# Altium integrated library Chassis.IntLib: 17 symbols
Pins are listed as number, name and electrical type; pins without a type are passive.

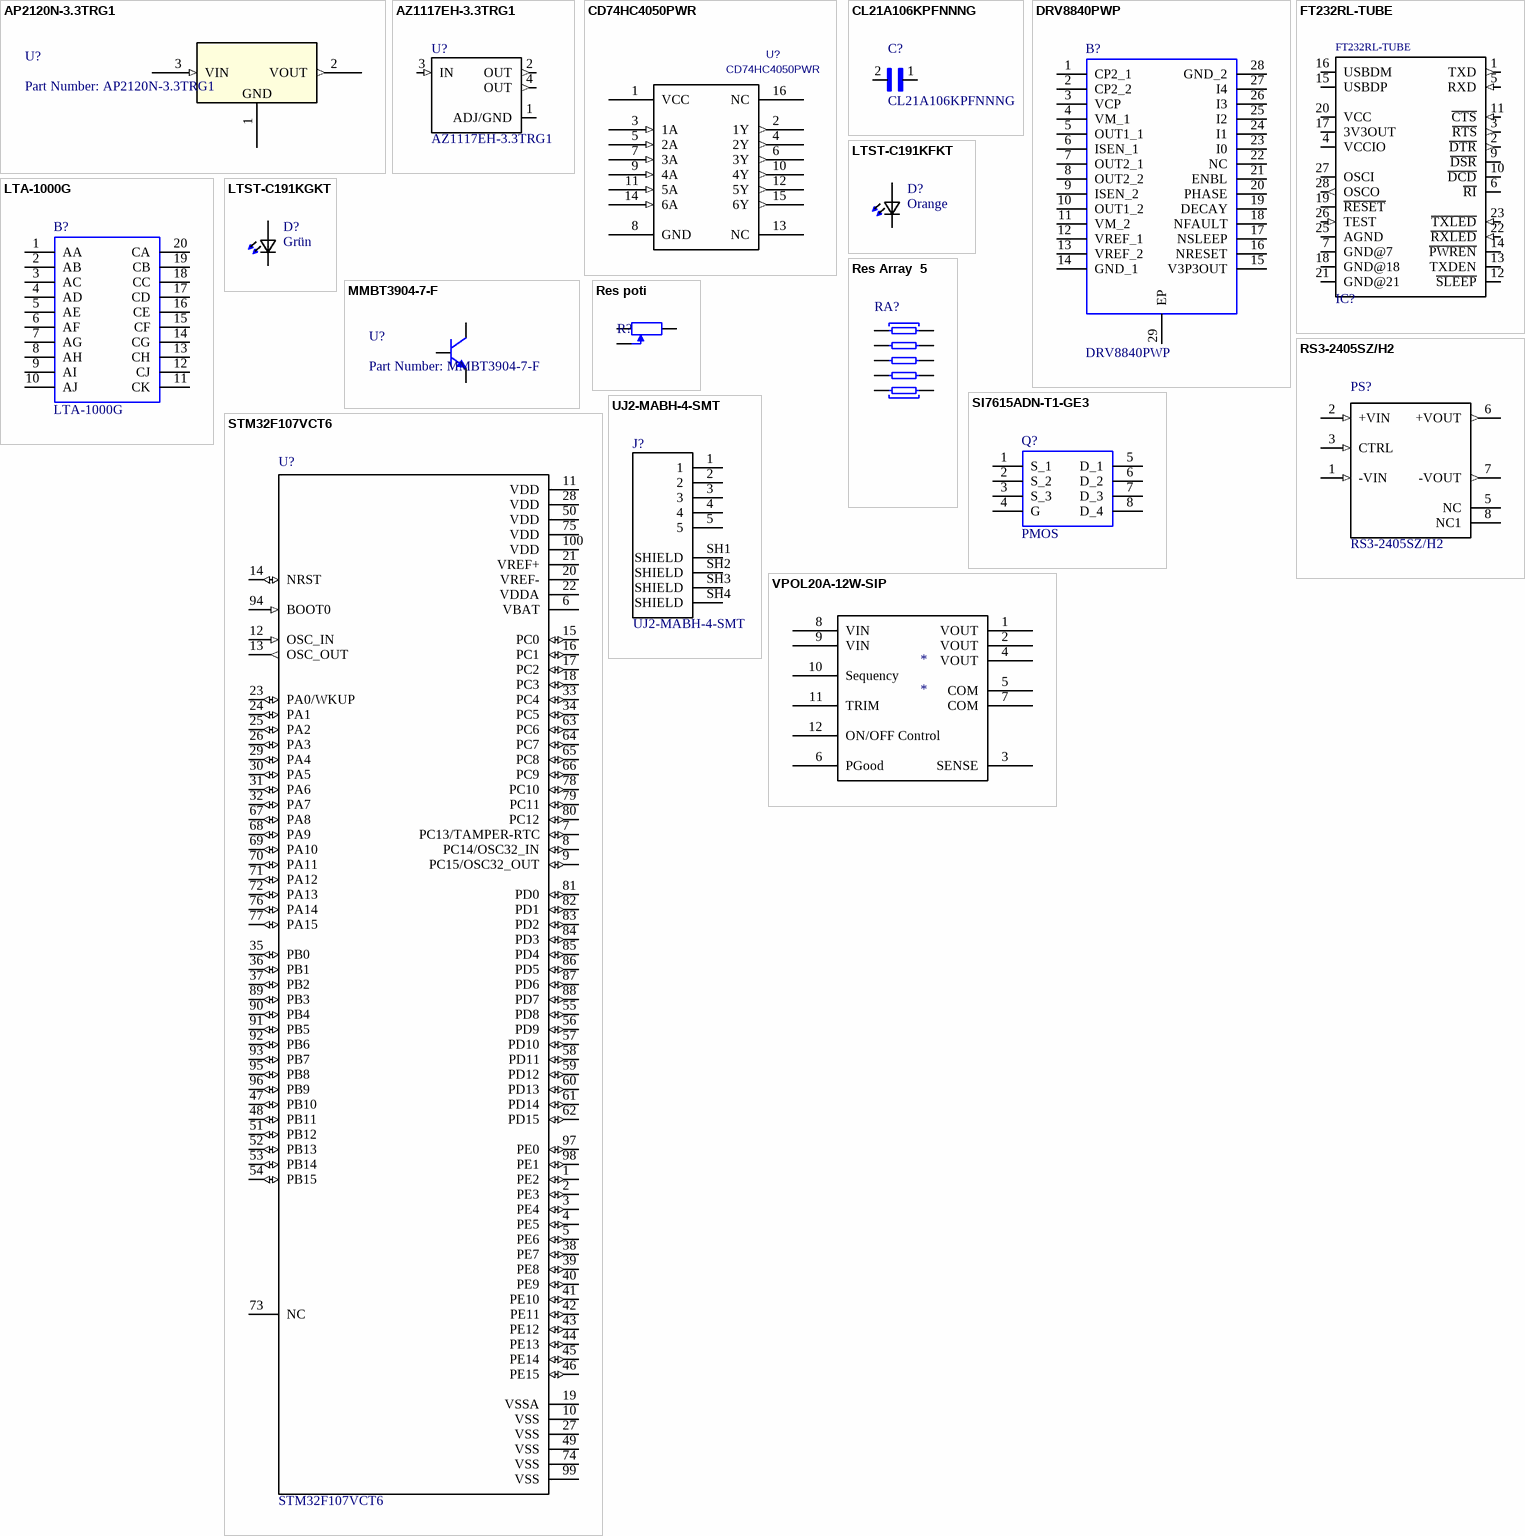
[diagram p0: symbols AP2120N-3.3TRG1 to VPOL20A-12W-SIP]

## AP2120N-3.3TRG1
designator U?, comment Part Number: AP2120N-3.3TRG1
3.3V Voltage Regulator; Vendor: Diodes Inc; Built_By: EMA_UL_Team; Manufacturer_Part_Number: AP2120N-3.3TRG1; Copyright: Copyright (C) 2018 Accelerated Designs. All rights reserved; RefDes: RefDes; Type: DEV; Value: Value
footprint SOT-23-M
pins: 1 GND (power), 2 VOUT (out), 3 VIN (in)

## AZ1117EH-3.3TRG1
designator U?
Ldo.Vreg Pos 3, 3v 1a Sot223; MF: Diodes Inc.; Package: SOT-223 Diodes Inc.; Digi-Key_Purchase_URL: https://www.digikey.ch/product-detail/en/diodes-incorporated/AZ1117EH-3.3TRG1/AZ1117EH-3.3TRG1DICT-ND/5001336?utm_source=snapeda&utm_medium=aggregator&utm_campaign=symbol; MP: AZ1117EH-3.3TRG1; SnapEDA_Link: https://www.snapeda.com/parts/AZ1117EH-3.3TRG1/Diodes%20Inc./view-part/?ref=snap; Digi-Key_Part_Number: AZ1117EH-3.3TRG1DICT-ND; Value: *
footprint *SOT230P700X180-4N
pins: 1 ADJ/GND (power), 2 OUT (out), 3 IN (in), 4 OUT (out)

## CD74HC4050PWR
designator U?
Manufacturer: Texas Instruments; C: Copyright (C) 2015 Accelerated Designs. All rights reserved; Built_By: EMA_UL_Team; Value: CD74HC4050PWR; Vendor: Vendor; Manufacturer_Part_Number: CD74HC4050PWR
footprint PW16
pins: 1 VCC (power), 2 1Y (out), 3 1A (in), 4 2Y (out), 5 2A (in), 6 3Y (out), 7 3A (in), 8 GND (power), 9 4A (in), 10 4Y (out), 11 5A (in), 12 5Y (out), 13 NC, 14 6A (in), 15 6Y (out), 16 NC

## CL21A106KPFNNNG
designator C?
MF: Samsung Electro-Mechanics; Digi-Key_Part_Number: 1276-6456-1-ND; Digi-Key_Purchase_URL: https://www.digikey.com/product-detail/en/samsung-electro-mechanics/CL21A106KPFNNNG/1276-6456-1-ND/5958084?utm_source=snapeda&utm_medium=aggregator&utm_campaign=symbol; SnapEDA_Link: https://www.snapeda.com/parts/CL21A106KPFNNNG/Samsung%20Electro-Mechanics/view-part/?ref=snap; MP: CL21A106KPFNNNG; Package: 0805 Samsung; Value: *
footprint *CAPC2012X135N
pins: 1, 2

## DRV8840PWP
designator B?
Texas Instruments DRV8840PWP, Full Bridge Motor Driver, DC Motor Driver, 28-Pin HTSSOP; Geometry.Height: 1.2mm; Mouser Part Number: 595-DRV8840PWP; Mouser Price/Stock: https://www.mouser.com/Search/Refine.aspx?Keyword=595-DRV8840PWP; Manufacturer_Name: Texas Instruments; Manufacturer_Part_Number: DRV8840PWP; Datasheet Link: http://www.ti.com/lit/ds/symlink/drv8840.pdf
footprint SOP65P640X120-29N
pins: 1 CP2_1, 2 CP2_2, 3 VCP, 4 VM_1, 5 OUT1_1, 6 ISEN_1, 7 OUT2_1, 8 OUT2_2, 9 ISEN_2, 10 OUT1_2, 11 VM_2, 12 VREF_1, 13 VREF_2, 14 GND_1, 15 V3P3OUT, 16 NRESET, 17 NSLEEP, 18 NFAULT, 19 DECAY, 20 PHASE, 21 ENBL, 22 NC, 23 I0, 24 I1, 25 I2, 26 I3, 27 I4, 28 GND_2, 29 EP

## FT232RL-TUBE
designator IC?  (value not drawn)
USB-to-UART 1-CH 256byte FIFO 5V 28-Pin SSOP Tube; MF: FTDI,; MP: FT232RL-TUBE; Digi-Key_Part_Number: 768-1306-ND; Package: SSOP-28 FTDI; Digi-Key_Purchase_URL: https://www.digikey.com/product-detail/en/ftdi-future-technology-devices-international-ltd/FT232RL-TUBE/768-1306-ND/4006920?utm_source=snapeda&utm_medium=aggregator&utm_campaign=symbol; SnapEDA_Link: https://www.snapeda.com/parts/FT232RL-TUBE/FTDI%2C%20Future%20Technology%20Devices%20International%20Ltd/view-part/?ref=snap; Value: *
footprint *SSOP28-LD
pins: 1 TXD (out), 2 ~{DTR} (out), 3 ~{RTS} (out), 4 VCCIO (power), 5 RXD (in), 6 ~{RI}, 7 GND@7 (power), 9 ~{DSR}, 10 ~{DCD}, 11 ~{CTS} (in), 12 ~{SLEEP}, 13 TXDEN, 14 ~{PWREN}, 15 USBDP (io), 16 USBDM (io), 17 3V3OUT (power), 18 GND@18 (power), 19 ~{RESET}, 20 VCC (power), 21 GND@21 (power), 22 ~{RXLED} (in), 23 ~{TXLED} (in), 25 AGND (power), 26 TEST (in), 27 OSCI, 28 OSCO (out)

## LTA-1000G
designator B?
LED Uni-Color Green 565nm 20-Pin PDIP; Manufacturer_Name: Lite-On; Geometry.Height: 8.25mm; Manufacturer_Part_Number: LTA-1000G; Mouser Part Number: 859-LTA-1000G; Mouser Price/Stock: https://www.mouser.com/Search/Refine.aspx?Keyword=859-LTA-1000G; RS Part Number: *; RS Price/Stock: *; Datasheet Link: https://optoelectronics.liteon.com/upload/download/DS-30-92-0809/A1000G.pdf
footprint DIPS762W50P254L2527H825Q20N
pins: 1 AA, 2 AB, 3 AC, 4 AD, 5 AE, 6 AF, 7 AG, 8 AH, 9 AI, 10 AJ, 11 CK, 12 CJ, 13 CH, 14 CG, 15 CF, 16 CE, 17 CD, 18 CC, 19 CB, 20 CA

## LTST-C191KFKT
designator D?, comment Orange
/ LED; SMD; 0603; orange; 45-90mcd; 1.6x0.8x0.55mm; 130Â°; 2Ã·2.4V; 20mA /; MP: LTST-C191KFKT; MF: Lite-On Inc.; Digi-Key_Purchase_URL: https://www.digikey.com/product-detail/en/lite-on-inc/LTST-C191KFKT/160-1445-1-ND/386832?utm_source=snapeda&utm_medium=aggregator&utm_campaign=symbol; SnapEDA_Link: https://www.snapeda.com/parts/LTST-C191KFKT/Lite-On%20Inc./view-part/?ref=snap; Digi-Key_Part_Number: 160-1445-1-ND; Package: 0603 Lite-On; Value: *
footprint *0603
pins: 1 K2, 2 A2

## LTST-C191KGKT
designator D?, comment Grün
/ LED; SMD; 0603; grün; 35mcd; 1.6x0.8x0.55mm; 130Â°; 2Ã·2.V; 20mA /; MP: LTST-C191KGKT; MF: Lite-On Inc.; Digi-Key_Purchase_URL: https://www.digikey.ch/product-detail/de/lite-on-inc/LTST-C191KGKT/160-1446-1-ND/386834; SnapEDA_Link: https://www.snapeda.com/parts/LTST-C191KFKT/Lite-On%20Inc./view-part/?ref=snap; Digi-Key_Part_Number: 160-1446-1-ND; Package: 0603 Lite-On; Value: *
footprint *0603
pins: 1 K2, 2 A2

## MMBT3904-7-F
designator U?, comment Part Number: MMBT3904-7-F
No Description Available; Vendor: Diodes Inc; Built_By: EMA_UL_Team; Manufacturer_Part_Number: MMBT3904-7-F; Copyright: Copyright (C) 2018 Accelerated Designs. All rights reserved; RefDes: RefDes; Type: DEV; Value: Value
footprint SOT-23-M
pins: 1 B, 2 E, 3 C

## Res Array  5
designator RA?
Isolated Resistor Network
footprint *SIP-10
pins: 1, 2, 3, 4, 5, 6, 7, 8, 9, 10

## Res poti
designator R?
Potentiometer
footprint *TRIM_3314J-1-202E
pins: 1, 2 TAP, 3

## RS3-2405SZ/H2
designator PS?
DC DC CONVERTER 5V 3W; MF: Recom Power; SnapEDA_Link: https://www.snapeda.com/parts/RS3-2405SZ/H2/Recom%20Power/view-part/?ref=snap; Digi-Key_Purchase_URL: https://www.digikey.com/product-detail/en/recom-power/RS3-2405SZ-H2/945-2884-ND/2321432?utm_source=snapeda&utm_medium=aggregator&utm_campaign=symbol; MP: RS3-2405SZ/H2; Package: None; Digi-Key_Part_Number: 945-2884-ND; Value: *
footprint *CONV_RS3-2405SZ/H2
pins: 1 -VIN (in), 2 +VIN (in), 3 CTRL (in), 5 NC, 6 +VOUT (out), 7 -VOUT (out), 8 NC1

## SI7615ADN-T1-GE3
designator Q?, comment PMOS
P-Channel MOSFET, 35 A, 20 V, 8-Pin PowerPAK 1212 Vishay; Manufacturer_Part_Number: SI7615ADN-T1-GE3; Allied_Number: 70459567; Manufacturer_Name: Vishay; Mouser Part Number: 78-SI7615ADN-T1-GE3; Mouser Price/Stock: https://www.mouser.com/Search/Refine.aspx?Keyword=78-SI7615ADN-T1-GE3; RS Part Number: 7879248; RS Price/Stock: https://uk.rs-online.com/web/p/products/7879248; Allied Price/Stock: https://www.alliedelec.com/siliconix-vishay-si7615adn-t1-ge3/70459567/; Datasheet Link: https://www.vishay.com/docs/62667/si7615adn.pdf
footprint SIS862DNT1GE3
pins: 1 S_1, 2 S_2, 3 S_3, 4 G, 5 D_1, 6 D_2, 7 D_3, 8 D_4

## STM32F107VCT6
designator U?
STM32 Series 32-bit 256 kB Flash 64 kB RAM ARM Based Microcontroller -LQFP-100; MF: STMicroelectronics; Price: None; Package: LQFP-100 STMicroelectronics; SnapEDA_Link: https://www.snapeda.com/parts/STM32F107VCT6/STMicroelectronics/view-part/?ref=snap; MP: STM32F107VCT6; Availability: Unavailable; Value: *
footprint *QFP50P1600X1600X160-100N
pins: 1 PE2 (io), 2 PE3 (io), 3 PE4 (io), 4 PE5 (io), 5 PE6 (io), 6 VBAT (power), 7 PC13/TAMPER-RTC (io), 8 PC14/OSC32_IN (io), 9 PC15/OSC32_OUT (io), 10 VSS (power), 11 VDD (power), 12 OSC_IN (in), 13 OSC_OUT (out), 14 NRST (io), 15 PC0 (io), 16 PC1 (io), 17 PC2 (io), 18 PC3 (io), 19 VSSA (power), 20 VREF- (power), 21 VREF+ (power), 22 VDDA (power), 23 PA0/WKUP (io), 24 PA1 (io), 25 PA2 (io), 26 PA3 (io), 27 VSS (power), 28 VDD (power), 29 PA4 (io), 30 PA5 (io), 31 PA6 (io), 32 PA7 (io), 33 PC4 (io), 34 PC5 (io), 35 PB0 (io), 36 PB1 (io), 37 PB2 (io), 38 PE7 (io), 39 PE8 (io), 40 PE9 (io), 41 PE10 (io), 42 PE11 (io), 43 PE12 (io), 44 PE13 (io), 45 PE14 (io), 46 PE15 (io), 47 PB10 (io), 48 PB11 (io), 49 VSS (power), 50 VDD (power), 51 PB12 (io), 52 PB13 (io), 53 PB14 (io), 54 PB15 (io), 55 PD8 (io), 56 PD9 (io), 57 PD10 (io), 58 PD11 (io), 59 PD12 (io), 60 PD13 (io), 61 PD14 (io), 62 PD15 (io), 63 PC6 (io), 64 PC7 (io), 65 PC8 (io), 66 PC9 (io), 67 PA8 (io), 68 PA9 (io), 69 PA10 (io), 70 PA11 (io), 71 PA12 (io), 72 PA13 (io), 73 NC, 74 VSS (power), 75 VDD (power), 76 PA14 (io), 77 PA15 (io), 78 PC10 (io), 79 PC11 (io), 80 PC12 (io), 81 PD0 (io), 82 PD1 (io), 83 PD2 (io), 84 PD3 (io), 85 PD4 (io), 86 PD5 (io), 87 PD6 (io), 88 PD7 (io), 89 PB3 (io), 90 PB4 (io), 91 PB5 (io), 92 PB6 (io), 93 PB7 (io), 94 BOOT0 (in), 95 PB8 (io), 96 PB9 (io), 97 PE0 (io), 98 PE1 (io), 99 VSS (power), 100 VDD (power)

## UJ2-MABH-4-SMT
designator J?
Mini AB, USB 2.0, 1 A, Right Angle, Surface Mount _SMT_, USB Receptacle; MF: CUI Inc.; Digi-Key_Part_Number: 102-5890-1-ND; Package: None; Digi-Key_Purchase_URL: https://www.digikey.com/product-detail/en/cui-inc/UJ2-MABH-4-SMT-TR/102-5890-1-ND/9838992?utm_source=snapeda&utm_medium=aggregator&utm_campaign=symbol; CUI_purchase_URL: https://www.cui.com/product/interconnect/connectors/usb-connectors/uj2-mabh-smt-series?utm_source=snapeda.com&utm_medium=referral&utm_campaign=snapedaBOM; SnapEDA_Link: https://www.snapeda.com/parts/UJ2-MABH-4-SMT/CUI%20Inc./view-part/?ref=snap; MP: UJ2-MABH-4-SMT; Value: *
footprint *CUI_UJ2-MABH-4-SMT_UJ2-MABH-4-SMT(Primary)
pins: 1, 2, 3, 4, 5, SH1 SHIELD, SH2 SHIELD, SH3 SHIELD, SH4 SHIELD

## VPOL20A-12W-SIP
designator *
DCDC, 5V 20A
footprint VPOL20A-12W-SIP
pins: 1 VOUT, 2 VOUT, 3 SENSE, 4 VOUT, 5 COM, 6 PGood, 7 COM, 8 VIN, 9 VIN, 10 Sequency, 11 TRIM, 12 ON/OFF Control